# EAGLE library part MAX31855 (library PP_Sensors)
Manufacturer Part #: MAX31855 Manufacturer: Maxim Integrated Description: Sensor Interface Thermocouple To Digital Converter
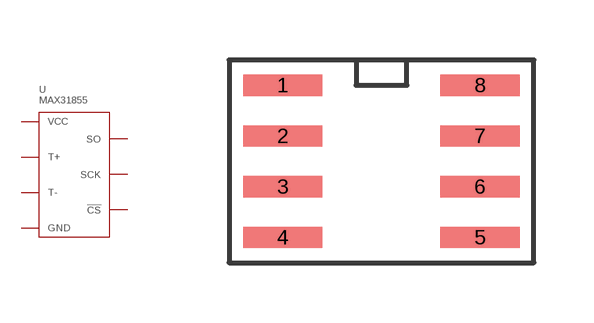
[diagram p1: symbol with the pads of MAX31855_SO-8; footprint MAX31855_SO-8]

Designator prefix U

## MAX31855  [MAX31855_SO-8]
1  GND
2  T-
3  T+
4  VCC
5  SCK
6  !CS
7  SO

## Footprint MAX31855_SO-8 (pad centres in mm)
smd 1.98 x 0.53: 1 -2.465,1.905; 2 -2.465,0.635; 3 -2.465,-0.635; 4 -2.465,-1.905; 5 2.465,-1.905; 6 2.465,-0.635; 7 2.465,0.635; 8 2.465,1.905